# Altium schematic symbol library SMD1204RGB-B.SchLib: 1 symbol
Pins are listed as number, name and electrical type; pins without a type are passive.

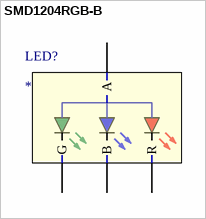
[diagram p0: symbol SMD1204RGB-B]

## SMD1204RGB-B
designator LED?
1206 SMD Side glow 3 color LED
pins: 1 G, 2 B, 3 R, 4 A